# Altium footprint library D_Connectors.PcbLib: 1 footprints
Each footprint in its own frame and in the unit in brackets; x right, y up, seen from the top. Pads: shape width x height; smd on the part's side, far side on the other; paste and mask are expansions set on the pad; w line width, h text height; cw(c..) or ccw(c..) is an arc to the next point about the centre after c.
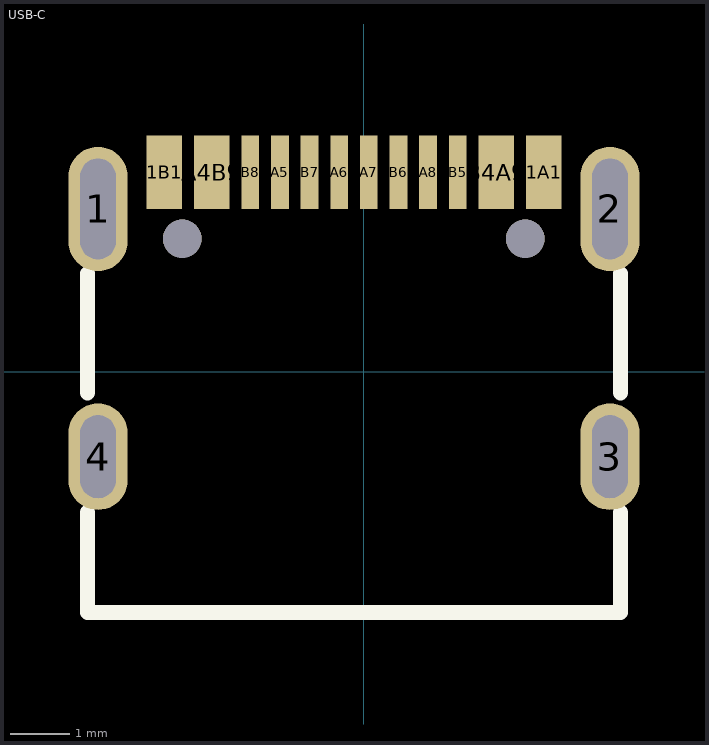
[diagram p0: the footprint, top view; thin cyan lines are the x and y axes]

## USB-C [mm]
pads (18):
  oval 1x2.1 hole 0.6 slot 1.7 at 90 deg paste+0 mask+0.05: 1(-4.484,2.746) 2(4.156,2.746)
  oval 1x1.8 hole 0.6 slot 1.4 at 90 deg paste+0 mask+0.05: 3(4.156,-1.434) 4(-4.484,-1.434)
  rect 0.6x1.24 smd paste-100 mask+0.05: A1B12(-3.364,3.366) A4B9(-2.564,3.366) B1A12(3.036,3.366) B4A9(2.236,3.366)
  rect 0.3x1.24 smd paste-100 mask+0.05: A5(-1.414,3.366) A6(-0.414,3.366) A7(0.086,3.366) A8(1.086,3.366) B5(1.586,3.366) B6(0.586,3.366) B7(-0.914,3.366) B8(-1.914,3.366)
  round 0.65 hole 0.65 unplated paste+0: ""(-3.064,2.246) ""(2.726,2.246)
Top Overlay:
  lines w0.254: -4.664,-2.373 -4.664,-4.064 4.336,-4.064 4.336,-2.373 ; -4.664,-0.355 -4.664,1.657 ; 4.336,-0.355 4.336,1.657
Top Paste:
  drawing of 16 lines, arcs and shapes, not listed
Mechanical 15:
  circle w0.25: c-3.064,2.246 r0.125
  circle w0.25: c2.726,2.246 r0.125